# Altium footprint library tcpcontrol.PcbLib: 62 footprints (part 4 of 4)
Each footprint in its own frame and in the unit in brackets; x right, y up, seen from the top. Pads: shape width x height; smd on the part's side, far side on the other; paste and mask are expansions set on the pad; w line width, h text height; cw(c..) or ccw(c..) is an arc to the next point about the centre after c.
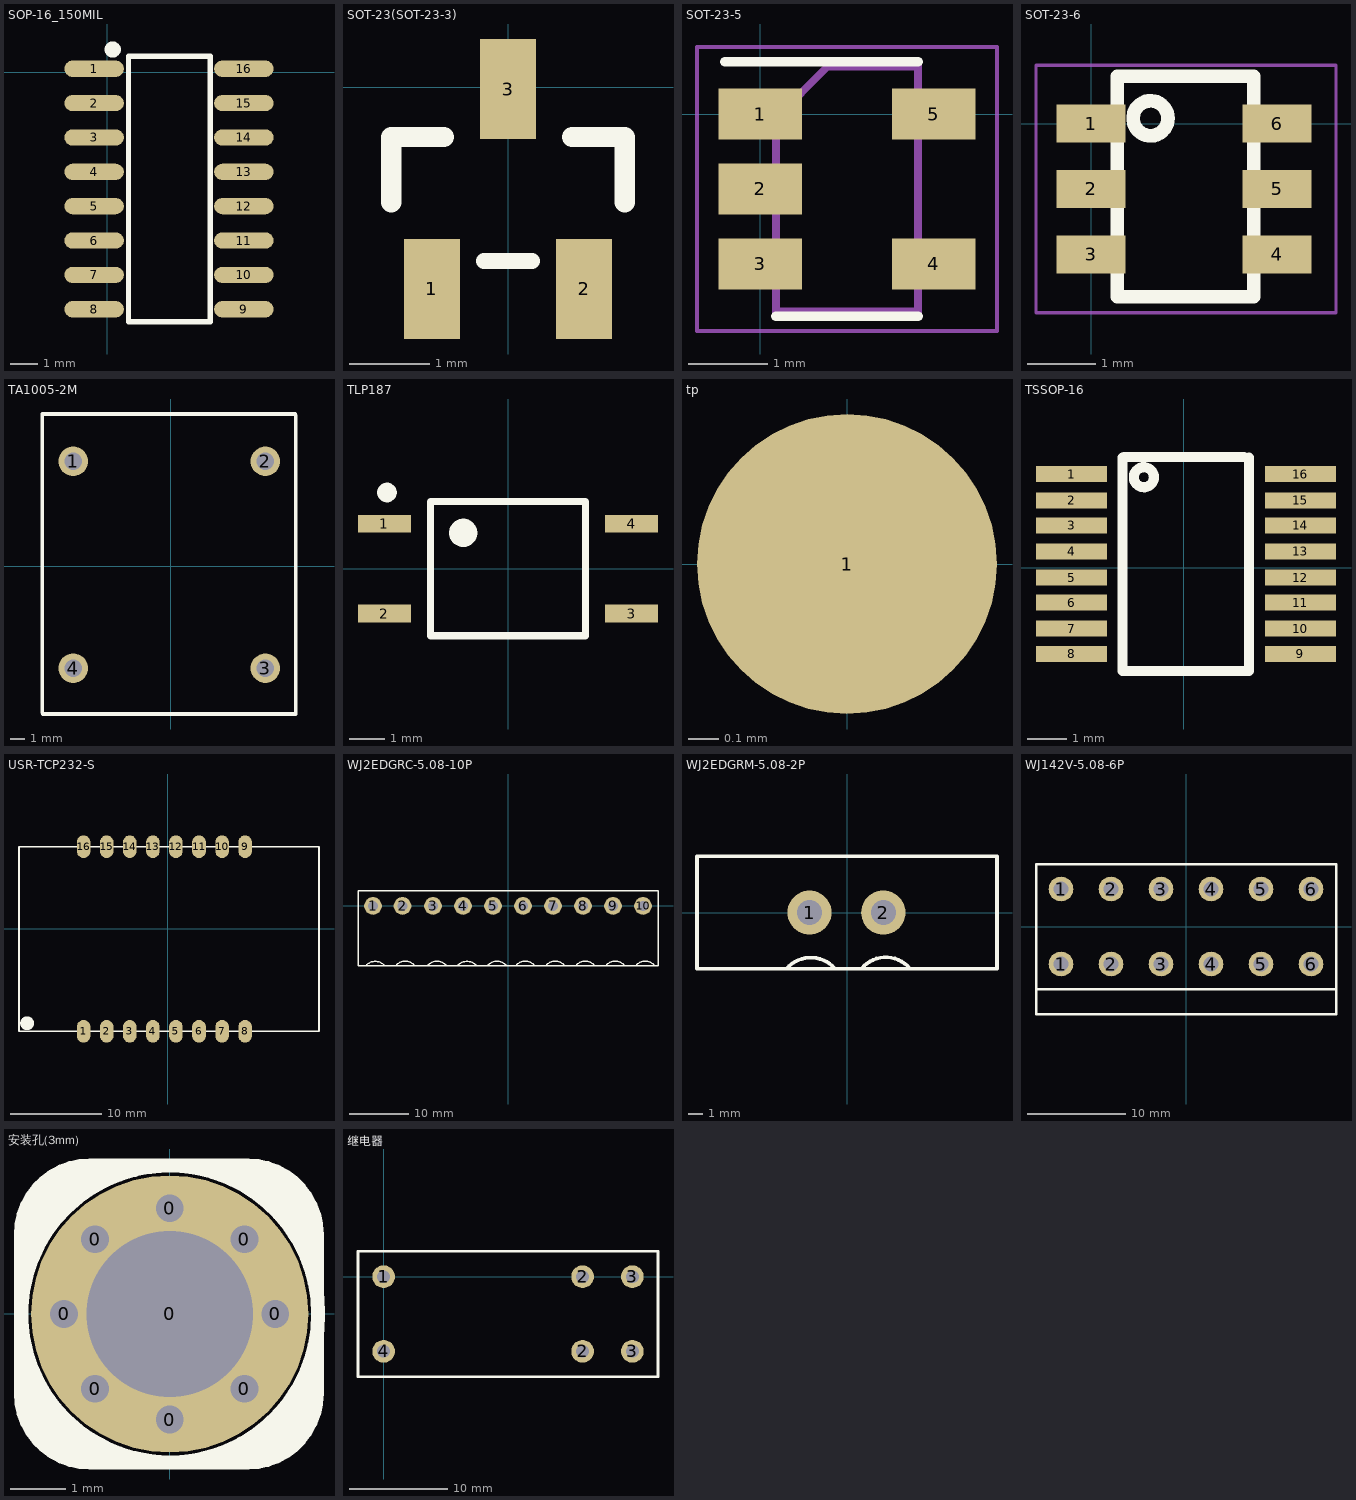
[diagram p3: the footprints below, top view; thin cyan lines are the x and y axes]

## SOP-16_150MIL [mm]
pads (16):
  oval 2.2x0.6 smd: 1(-0.483,0.127) 2(-0.483,-1.143) 3(-0.483,-2.413) 4(-0.483,-3.683) 5(-0.483,-4.953) 6(-0.483,-6.223) 7(-0.483,-7.493) 8(-0.483,-8.763) 9(5.055,-8.763) 10(5.055,-7.493) 11(5.055,-6.223) 12(5.055,-4.953) 13(5.055,-3.683) 14(5.055,-2.413) 15(5.055,-1.143) 16(5.055,0.127)
Top Overlay:
  lines w0.2: 0.787,-9.218 3.81,-9.218 3.81,0.582 3.286,0.582 0.787,0.582 0.787,-9.218
  lines w0.3: 0.356,0.836 cw(c0.206,0.837) 0.356,0.838

## SOT-23(SOT-23-3) [mm]
height 1.1
pads (3):
  rect 0.7x1.25 smd: 1(-0.95,-2.52) 2(0.95,-2.52) 3(0,-0.02)
Top Overlay:
  lines w0.2: -0.3,-2.17 0.3,-2.17
  lines w0.254: -1.46,-1.435 -1.46,-0.62 -0.8,-0.62 ; 1.46,-1.435 1.46,-0.62 ; 0.8,-0.62 1.46,-0.62 ; 0.8,-0.62 1.46,-0.62 ; 0.8,-0.62 1.46,-0.62

## SOT-23-5 [mm]
height 1.1
pads (5):
  rect 1.06x0.65 smd: 1(0,0) 2(0,-0.95) 3(0,-1.9) 4(2.2,-1.9) 5(2.2,0)
Top Overlay:
  lines w0.12: -0.45,0.66 2,0.66 ; 0.2,-2.56 2,-2.56
Mechanical 1:
  lines w0.05: -0.8,-2.75 3,-2.75 3,0.85 -0.8,0.85 -0.8,-2.75
Mechanical 15:
  lines w0.1: 0.2,-2.5 2,-2.5 2,0.6 0.85,0.6 0.2,-0.05 0.2,-2.5

## SOT-23-6 [mm]
height 1.1
pads (6):
  rect 1x0.55 smd: 1(0,0) 2(0,-0.95) 3(0,-1.9) 4(2.7,-1.9) 5(2.7,-0.95) 6(2.7,0)
Top Overlay:
  circle w0.2: c0.864,0.076 r0.254
  lines w0.2: 0.381,-2.515 1.372,-2.515 2.362,-2.515 2.362,-0.914 2.362,0.686 1.372,0.686 0.381,0.686 0.381,-0.914 0.381,-2.515
Mechanical 1:
  lines w0.05: -0.8,-2.75 3.556,-2.75 3.556,0.85 -0.8,0.85 -0.8,-2.75

## TA1005-2M [mm]
height 1.1
pads (4):
  round 2 hole 1.2: 1(-6.604,7.112) 2(6.396,7.112) 3(6.396,-6.888) 4(-6.604,-6.888)
Top Overlay:
  lines w0.254: -8.704,-9.888 -8.704,10.312 ; -8.645,-9.988 8.355,-9.988 ; -8.604,10.312 8.396,10.312 ; 8.455,-9.988 8.455,10.212

## TLP187 [mm]
height 2.2
pads (4):
  rect 1.5x0.5 smd: 1(-3.5,1.27) 2(-3.5,-1.27) 3(3.5,-1.27) 4(3.5,1.27)
Top Overlay:
  circle w0.3: c-3.429,2.159 r0.127
  circle w0.4: c-1.27,1.016 r0.2
  lines w0.2: -2.2,-1.9 -2.2,1.9 2.2,1.9 2.2,-1.9 -2.2,-1.9
3D body "User Library-VOM618A.STEP": height 2.1, standoff 0, extent -3.503,-1.925 3.504,1.925

## tp [mm]
height 10.058
pads (1):
  round 1 smd: 1(0,0)

## TSSOP-16 [mil]
pads (16):
  rect 71x16 smd: 1(-112,93) 2(-112,67) 3(-112,42) 4(-112,16) 5(-112,-10) 6(-112,-35) 7(-112,-61) 8(-112,-86) 9(116,-86) 10(116,-61) 11(116,-35) 12(116,-10) 13(116,16) 14(116,42) 15(116,67) 16(116,93)
Top Overlay:
  circle w10: c-40,90 r10
  lines w10: -61.1,109.6 -61.1,-103 64.8,-103 64.8,109.6 ; -60,110 60,110

## USR-TCP232-S [mm]
pads (16):
  oval 1.5x2.5 smd: 1(-9.271,-11.303) 2(-6.731,-11.303) 3(-4.191,-11.303) 4(-1.651,-11.303) 5(0.889,-11.303) 6(3.429,-11.303) 7(5.969,-11.303) 8(8.509,-11.303) 9(8.509,9.017) 10(5.969,9.017) 11(3.429,9.017) 12(0.889,9.017) 13(-1.651,9.017) 14(-4.191,9.017) 15(-6.731,9.017) 16(-9.271,9.017)
Top Overlay:
  circle w0.762: c-15.494,-10.414 r0.381
  lines w0.203: -16.383,-11.303 16.637,-11.303 16.637,9.017 -16.383,9.017 -16.383,-11.303

## WJ2EDGRC-5.08-10P [mm]
pads (10):
  round 3 hole 1.7: 1(-22.86,0) 2(-17.861,0) 3(-12.7,0) 4(-7.62,0) 5(-2.54,0) 6(2.54,0) 7(7.62,0) 8(12.7,0) 9(17.78,0) 10(22.86,0)
Top Overlay:
  lines w0.254: -24.13,-10.16 cw(c-22.479,-11.567) -20.828,-10.16 ; -19.05,-10.16 cw(c-17.399,-11.495) -15.748,-10.16 ; -13.675,-10.16 cw(c-12.024,-11.495) -10.373,-10.16 ; -8.595,-10.16 cw(c-6.944,-11.567) -5.293,-10.16 ; -3.515,-10.16 cw(c-1.864,-11.495) -0.213,-10.16 ; 1.27,-10.16 cw(c2.921,-11.495) 4.572,-10.16 ; 6.35,-10.16 cw(c8.001,-11.495) 9.652,-10.16 ; 11.43,-10.16 cw(c13.081,-11.495) 14.732,-10.16 ; 16.51,-10.16 cw(c18.161,-11.495) 19.812,-10.16 ; 21.59,-10.16 cw(c23.241,-11.495) 24.892,-10.16 ; -25.4,-10.16 -25.4,2.54 0,2.54 5.08,2.54 25.4,2.54 25.4,-10.16 5.08,-10.16 0,-10.16 -25.4,-10.16

## WJ2EDGRM-5.08-2P [mm]
pads (2):
  round 3 hole 1.7: 1(-2.54,0) 2(2.459,0)
Top Overlay:
  lines w0.254: -4.105,-3.81 cw(c-2.454,-5.217) -0.803,-3.81 ; 0.975,-3.81 cw(c2.626,-5.145) 4.277,-3.81 ; -10.16,-3.81 -5.08,-3.81 5.08,-3.81 10.16,-3.81 10.16,3.81 5.08,3.81 -5.08,3.81 -10.16,3.81 -10.16,-3.81

## WJ142V-5.08-6P [mm]
pads (12):
  round 2.5 hole 1.5: 1(-12.7,-3.81) 1(-12.7,3.81) 2(-7.62,-3.81) 2(-7.62,3.81) 3(-2.54,-3.81) 3(-2.54,3.81) 4(2.54,-3.81) 4(2.54,3.81) 5(7.62,-3.81) 5(7.62,3.81) 6(12.7,-3.81) 6(12.7,3.81)
Top Overlay:
  lines w0.254: -15.24,-6.35 -15.24,-8.89 12.7,-8.89 15.24,-8.89 15.24,-6.35 ; -15.24,-6.35 -15.24,6.35 15.24,6.35 15.24,-6.35 ; -15.24,-6.35 15.24,-6.35

## 安装孔(3mm) [mm]
pads (9):
  round 1 hole 0.5: 0(-1.905,0) 0(-1.347,-1.347) 0(-1.347,1.347) 0(0,-1.905) 0(0,1.905) 0(1.347,-1.347) 0(1.347,1.347) 0(1.905,0)
  round 5 hole 3: 0(0,0)
Top Overlay:
  drawing of 14 lines, arcs and shapes, not listed
Bottom Overlay:
  drawing of 14 lines, arcs and shapes, not listed

## 继电器 [mm]
pads (6):
  round 2.3 hole 1.3: 1(0,0) 2(20.16,-7.56) 2(20.16,0) 3(25.2,-7.56) 3(25.2,0) 4(0,-7.56)
Top Overlay:
  lines w0.254: -2.6,-10.16 27.2,-10.16 27.8,-10.16 27.8,2.6 27.2,2.6 0,2.6 -2.6,2.6 -2.6,-10